# Altium footprint library AltiumDesigner.PcbLib: 3 footprints
Each footprint in its own frame and in the unit in brackets; x right, y up, seen from the top. Pads: shape width x height; smd on the part's side, far side on the other; paste and mask are expansions set on the pad; w line width, h text height; cw(c..) or ccw(c..) is an arc to the next point about the centre after c.
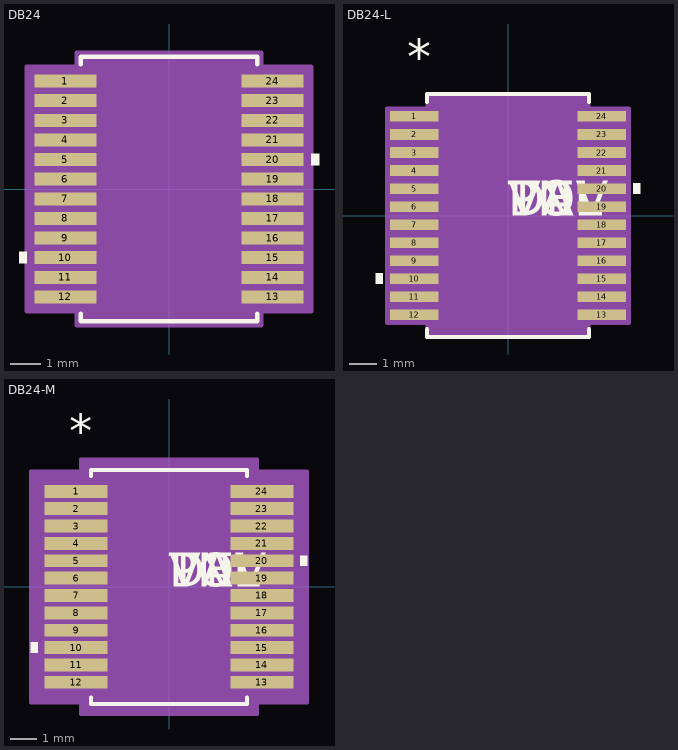
[diagram p0: the footprints below, top view; thin cyan lines are the x and y axes]

## DB24 [mil]
pads (24):
  rect 81x17 smd: 1(-135,140.75) 2(-135,115.16) 3(-135,89.57) 4(-135,63.98) 5(-135,38.39) 6(-135,12.8) 7(-135,-12.8) 8(-135,-38.39) 9(-135,-63.98) 10(-135,-89.57) 11(-135,-115.16) 12(-135,-140.75) 13(135,-140.75) 14(135,-115.16) 15(135,-89.57) 16(135,-63.98) 17(135,-38.39) 18(135,-12.8) 19(135,12.8) 20(135,38.39) 21(135,63.98) 22(135,89.57) 23(135,115.16) 24(135,140.75)
Top Overlay:
  region: 185.5,45.89 195.5,45.89 195.5,30.89 185.5,30.89
  region: -185.5,-82.07 -195.5,-82.07 -195.5,-97.07 -185.5,-97.07
  lines w6: -115,-162.35 -115,-172.5 115,-172.5 115,-162.35 ; -115,162.35 -115,172.5 115,172.5 115,162.35
Mechanical 13:
  lines w0: -12,167.5 ccw(c0,167.5) 12,167.5
Mechanical 15:
  region: -120,-159.25 -185.5,-159.25 -185.5,159.25 -120,159.25 -120,177.5 120,177.5 120,159.25 185.5,159.25 185.5,-159.25 120,-159.25 120,-177.5 -120,-177.5
  lines w6: -185.5,-159.25 -120,-159.25 -120,-177.5 120,-177.5 120,-159.25 185.5,-159.25 185.5,159.25 120,159.25 120,177.5 -120,177.5 -120,159.25 -185.5,159.25 -185.5,-159.25
3D body: height 10, standoff 0, extent 0,0 10,10

## DB24-L [mil]
pads (24):
  rect 69x15 smd: 1(-133,140.75) 2(-133,115.16) 3(-133,89.57) 4(-133,63.98) 5(-133,38.39) 6(-133,12.8) 7(-133,-12.8) 8(-133,-38.39) 9(-133,-63.98) 10(-133,-89.57) 11(-133,-115.16) 12(-133,-140.75) 13(133,-140.75) 14(133,-115.16) 15(133,-89.57) 16(133,-63.98) 17(133,-38.39) 18(133,-12.8) 19(133,12.8) 20(133,38.39) 21(133,63.98) 22(133,89.57) 23(133,115.16) 24(133,140.75)
Top Overlay:
  region: -177.5,-82.07 -187.5,-82.07 -187.5,-97.07 -177.5,-97.07
  region: 177.5,45.89 187.5,45.89 187.5,30.89 177.5,30.89
  lines w6: -115,-161.35 -115,-172.5 115,-172.5 115,-161.35 ; -115,161.35 -115,172.5 115,172.5 115,161.35
  text "*" at -143,200.75 h50
  text "PN" at 0,0 h50
  text "DEV" at 0,0 h50
  text "VAL" at 0,0 h50
  text "TOL" at 0,0 h50
Mechanical 13:
  lines w0: -12,167.5 ccw(c0,167.5) 12,167.5
  text "*" at -95,164.5 h50
  text "RefDes2" at 0,0 h50
Mechanical 15:
  region: -114,-152.25 -171.5,-152.25 -171.5,152.25 -114,152.25 -114,171.5 114,171.5 114,152.25 171.5,152.25 171.5,-152.25 114,-152.25 114,-171.5 -114,-171.5
  lines w6: -171.5,-152.25 -171.5,152.25 -114,152.25 -114,171.5 114,171.5 114,152.25 171.5,152.25 171.5,-152.25 114,-152.25 114,-171.5 -114,-171.5 -114,-152.25 -171.5,-152.25
3D body: height 10, standoff 0, extent 0,0 10,10

## DB24-M [mil]
pads (24):
  rect 93x19 smd: 1(-137,140.75) 2(-137,115.16) 3(-137,89.57) 4(-137,63.98) 5(-137,38.39) 6(-137,12.8) 7(-137,-12.8) 8(-137,-38.39) 9(-137,-63.98) 10(-137,-89.57) 11(-137,-115.16) 12(-137,-140.75) 13(137,-140.75) 14(137,-115.16) 15(137,-89.57) 16(137,-63.98) 17(137,-38.39) 18(137,-12.8) 19(137,12.8) 20(137,38.39) 21(137,63.98) 22(137,89.57) 23(137,115.16) 24(137,140.75)
Top Overlay:
  region: -193.5,-82.07 -203.5,-82.07 -203.5,-97.07 -193.5,-97.07
  region: 193.5,45.89 203.5,45.89 203.5,30.89 193.5,30.89
  lines w6: -115,-163.35 -115,-172.5 115,-172.5 115,-163.35 ; -115,163.35 -115,172.5 115,172.5 115,163.35
  text "*" at -147,204.75 h50
  text "PN" at 0,0 h50
  text "DEV" at 0,0 h50
  text "VAL" at 0,0 h50
  text "TOL" at 0,0 h50
Mechanical 13:
  lines w0: -12,167.5 ccw(c0,167.5) 12,167.5
  text "*" at -95,164.5 h50
  text "RefDes2" at 0,0 h50
Mechanical 15:
  region: -130,-170.25 -203.5,-170.25 -203.5,170.25 -130,170.25 -130,187.5 130,187.5 130,170.25 203.5,170.25 203.5,-170.25 130,-170.25 130,-187.5 -130,-187.5
  lines w6: -203.5,-170.25 -203.5,170.25 -130,170.25 -130,187.5 130,187.5 130,170.25 203.5,170.25 203.5,-170.25 130,-170.25 130,-187.5 -130,-187.5 -130,-170.25 -203.5,-170.25
3D body: height 10, standoff 0, extent 0,0 10,10